# Altium integrated library Library.IntLib: 11 symbols
Pins are listed as number, name and electrical type; pins without a type are passive.

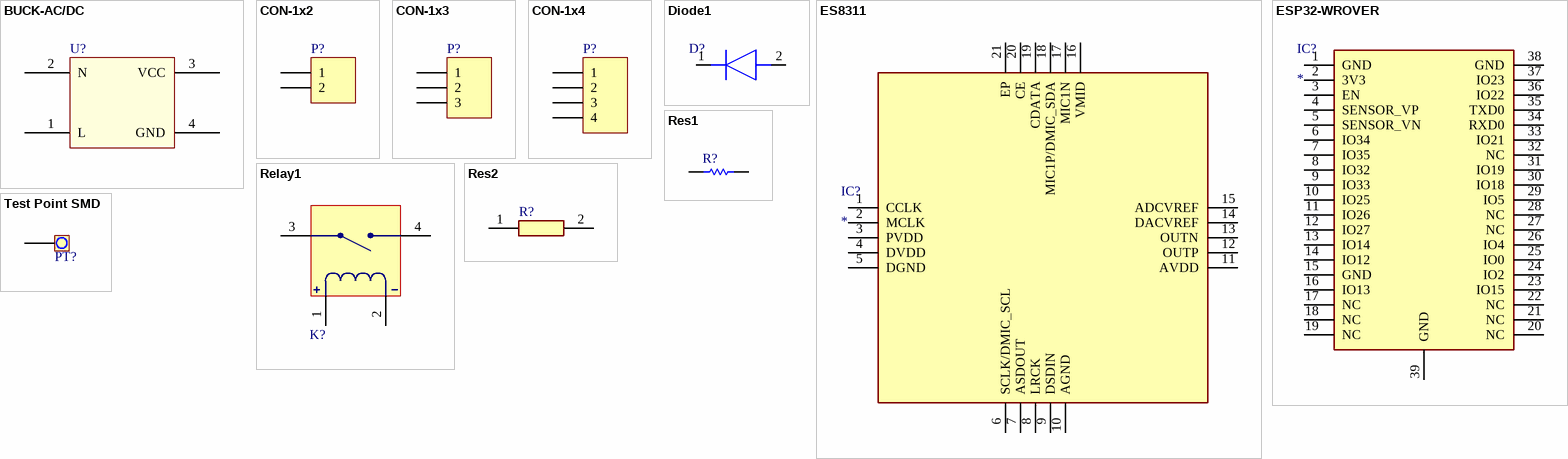
[diagram p0: symbols BUCK-AC/DC to Test Point SMD]

## BUCK-AC/DC
designator U?
footprint BUCK-AC/DC
pins: 1 L, 2 N, 3 VCC, 4 GND

## CON-1x2
designator P?
Connector, 2-Pin
signal-integrity model Connector
footprint CUI_TBP03R1-350-02GR
pins: 1, 2

## CON-1x3
designator P?
Connector, 3-Pin
footprint HDR1X3 (Footprint not found)
signal-integrity model Connector
footprint TERM_BLOCK_HDR_VERT_3.81MM_1X3
pins: 1, 2, 3

## CON-1x4
designator P?
Connector, 4-Pin
signal-integrity model Connector
footprint CUI_TBP03R1-350-04GR
footprint CONN_HEADER_VERT_2.5MM_1X8_B4B-XH-AM
pins: 1, 2, 3, 4

## Diode1
designator D?, comment Diode  (value not drawn)
footprint SMA
pins: 1 K, 2 A

## ES8311
designator IC?
Integrated Circuit
footprint QFN40P300X300X60-21N
pins: 1 CCLK, 2 MCLK, 3 PVDD, 4 DVDD, 5 DGND, 6 SCLK/DMIC_SCL, 7 ASDOUT, 8 LRCK, 9 DSDIN, 10 AGND, 11 AVDD, 12 OUTP, 13 OUTN, 14 DACVREF, 15 ADCVREF, 16 VMID, 17 MIC1N, 18 MIC1P/DMIC_SDA, 19 CDATA, 20 CE, 21 EP

## ESP32-WROVER
designator IC?
Integrated Circuit
footprint ESP32-WROVER
pins: 1 GND, 2 3V3, 3 EN, 4 SENSOR_VP, 5 SENSOR_VN, 6 IO34, 7 IO35, 8 IO32, 9 IO33, 10 IO25, 11 IO26, 12 IO27, 13 IO14, 14 IO12, 15 GND, 16 IO13, 17 NC, 18 NC, 19 NC, 20 NC, 21 NC, 22 NC, 23 IO15, 24 IO2, 25 IO0, 26 IO4, 27 NC, 28 NC, 29 IO5, 30 IO18, 31 IO19, 32 NC, 33 IO21, 34 RXD0, 35 TXD0, 36 IO22, 37 IO23, 38 GND, 39 GND

## Relay1
designator K?, comment Generic Relay  (value not drawn)
Generic Relay With COM and NO
footprint Relay1
pins: 1 VDD, 2 VSS, 3 Common, 4 Normaly Open

## Res1
designator R?, comment PTH Resistor  (value not drawn)
footprint AXIAL-0.3 (Axial Device, Thru-Hole; 2 Leads; 0.3 in Pin Spacing)
simulation model RESISTOR (Resistor)
signal-integrity model Res
pins: 1, 2

## Res2
designator R?, comment SMD Resistor  (value not drawn)
simulation model RESISTOR (Resistor)
signal-integrity model Res
footprint R1005[0402] (Chip Resistor; Body 1.1 x 0.5 mm (LxW typ))
footprint R1608[0603] (Chip Resistor; Body 1.6 x 0.8 mm (LxW typ))
footprint R2012[0805] (Chip Resistor; Body 2.0 x 1.3 mm (LxW typ))
footprint R3216[1206] (Chip Resistor; Body 3.2 x 1.6 mm (LxW typ))
footprint R3225[1210] (Chip Resistor; Body 3.2 x 2.5 mm (LxW typ))
footprint R5025[2010] (Chip Resistor; Body 5.0 x 2.5 mm (LxW typ))
footprint R6332[2512] (Chip Resistor; Body 6.3 x 3.2 mm (LxW typ))
pins: 1, 2

## Test Point SMD
designator PT?, comment Test Point  (value not drawn)  (no BOM)
Generic Test Point SMD
footprint TEST_POINT_SMD
pins: 1